# Altium footprint library Intelligent-Lighting-MasterPCBlib.PcbLib: 50 footprints (part 2 of 4)
Each footprint in its own frame and in the unit in brackets; x right, y up, seen from the top. Pads: shape width x height; smd on the part's side, far side on the other; paste and mask are expansions set on the pad; w line width, h text height; cw(c..) or ccw(c..) is an arc to the next point about the centre after c.
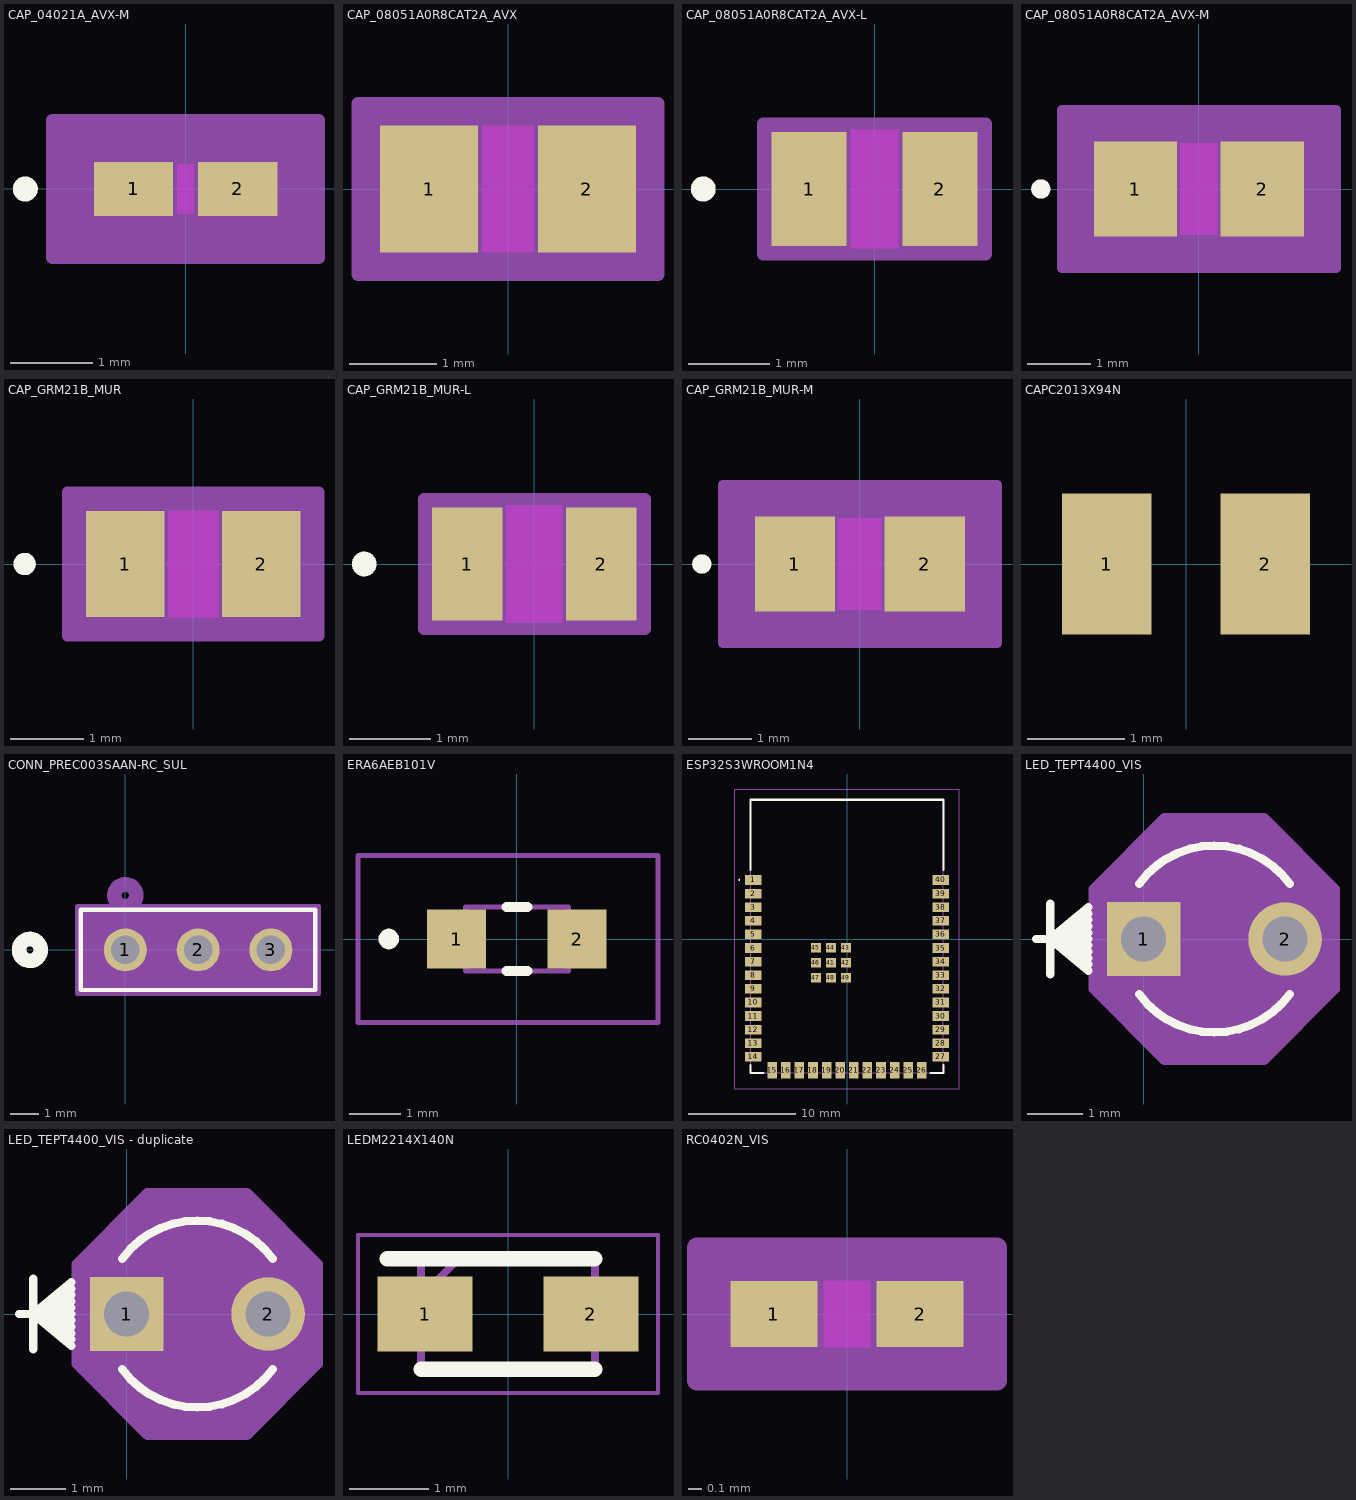
[diagram p1: the footprints below, top view; thin cyan lines are the x and y axes]

## CAP_04021A_AVX-M [mil]
pads (2):
  rect 38x26 smd paste+0 mask+0: 1(-25,0) 2(25,0)
Top Layer keep-out:
  region: -4,-10 -4,10 4,10 4,-10
Top Overlay:
  circle w6: c-77,0 r3
Keep-Out Layer:
  region: -4,-12 -4,12 4,12 4,-12
Mechanical 13:
  circle w0: c-20,0 r3
  lines w1: -22,-12 -22,12 ; -22,-12 -6,-12 -6,12 -22,12 ; -22,-12 22,-12 ; -22,-12 -22,12 ; -22,12 22,12 ; 22,-12 6,-12 6,12 22,12 ; 22,-12 22,12 ; 22,-12 22,12
Mechanical 15:
  region: 64,-33 -64,-33 -64,33 64,33
  lines w6: -64,-33 -64,33 64,33 64,-33 -64,-33
3D body "CAP_04021A_AVX.step": height 22.01, standoff 0, extent -22.01,-12.01 22.01,12.01

## CAP_08051A0R8CAT2A_AVX [mil]
pads (2):
  rect 44x57 smd paste+0 mask+0: 1(-35.5,0) 2(35.5,0)
Top Layer keep-out:
  region: -11.5,-26.5 -11.5,26.5 11.5,26.5 11.5,-26.5
Keep-Out Layer:
  region: -11.5,-28.5 -11.5,28.5 11.5,28.5 11.5,-28.5
Mechanical 13:
  lines w1: -43.5,-28.5 -43.5,28.5 ; -43.5,-28.5 -13.5,-28.5 -13.5,28.5 -43.5,28.5 ; -43.5,-28.5 43.5,-28.5 ; -43.5,-28.5 -43.5,28.5 ; -43.5,28.5 43.5,28.5 ; 43.5,-28.5 13.5,-28.5 13.5,28.5 43.5,28.5 ; 43.5,-28.5 43.5,28.5 ; 43.5,-28.5 43.5,28.5
Mechanical 15:
  region: 67.5,-38.5 -67.5,-38.5 -67.5,38.5 67.5,38.5
  lines w6: -67.5,-38.5 -67.5,38.5 67.5,38.5 67.5,-38.5 -67.5,-38.5
3D body "CAP_08051A0R8CAT2A_AVX.step": height 37.01, standoff 0, extent -43.5,-28.5 43.5,28.5

## CAP_08051A0R8CAT2A_AVX-L [mil]
pads (2):
  rect 36x55 smd paste+0 mask+0: 1(-31.5,0) 2(31.5,0)
Top Layer keep-out:
  region: -11.5,-26.5 -11.5,26.5 11.5,26.5 11.5,-26.5
Top Overlay:
  circle w6: c-82.5,0 r3
Keep-Out Layer:
  region: -11.5,-28.5 -11.5,28.5 11.5,28.5 11.5,-28.5
Mechanical 13:
  circle w0: c-26.5,0 r3
  lines w1: -43.5,-28.5 -43.5,28.5 ; -43.5,-28.5 43.5,-28.5 ; -43.5,-28.5 -13.5,-28.5 -13.5,28.5 -43.5,28.5 ; -43.5,-28.5 -43.5,28.5 ; -43.5,28.5 43.5,28.5 ; 43.5,-28.5 43.5,28.5 ; 43.5,-28.5 43.5,28.5 ; 43.5,-28.5 13.5,-28.5 13.5,28.5 43.5,28.5
Mechanical 15:
  region: 53.5,-31.5 -53.5,-31.5 -53.5,31.5 53.5,31.5
  lines w6: -53.5,-31.5 53.5,-31.5 53.5,31.5 -53.5,31.5 -53.5,-31.5
3D body "CAP_08051A0R8CAT2A_AVX.step": height 37.01, standoff 0, extent -43.5,-28.5 43.5,28.5

## CAP_08051A0R8CAT2A_AVX-M [mil]
pads (2):
  rect 52x59 smd paste+0 mask+0: 1(-39.5,0) 2(39.5,0)
Top Layer keep-out:
  region: -11.5,-26.5 -11.5,26.5 11.5,26.5 11.5,-26.5
Top Overlay:
  circle w6: c-98.5,0 r3
Keep-Out Layer:
  region: -11.5,-28.5 -11.5,28.5 11.5,28.5 11.5,-28.5
Mechanical 13:
  circle w0: c-34.5,0 r3
  lines w1: -43.5,-28.5 -43.5,28.5 ; -43.5,-28.5 -13.5,-28.5 -13.5,28.5 -43.5,28.5 ; -43.5,-28.5 43.5,-28.5 ; -43.5,-28.5 -43.5,28.5 ; -43.5,28.5 43.5,28.5 ; 43.5,-28.5 13.5,-28.5 13.5,28.5 43.5,28.5 ; 43.5,-28.5 43.5,28.5 ; 43.5,-28.5 43.5,28.5
Mechanical 15:
  region: 85.5,-49.5 -85.5,-49.5 -85.5,49.5 85.5,49.5
  lines w6: -85.5,-49.5 -85.5,49.5 85.5,49.5 85.5,-49.5 -85.5,-49.5
3D body "CAP_08051A0R8CAT2A_AVX.step": height 37.01, standoff 0, extent -43.5,-28.5 43.5,28.5

## CAP_GRM21B_MUR [mil]
pads (2):
  rect 42x57 smd paste+0 mask+0: 1(-36.5,0) 2(36.5,0)
Top Layer keep-out:
  region: -13.5,-26.5 -13.5,26.5 13.5,26.5 13.5,-26.5
Top Overlay:
  circle w6: c-90.5,0 r3
Keep-Out Layer:
  region: -13.5,-28.5 -13.5,28.5 13.5,28.5 13.5,-28.5
Mechanical 13:
  circle w0: c-31.5,0 r3
  lines w1: -43.5,-28.5 -43.5,28.5 ; -43.5,-28.5 43.5,-28.5 ; -43.5,-28.5 -15.5,-28.5 -15.5,28.5 -43.5,28.5 ; -43.5,-28.5 -43.5,28.5 ; -43.5,28.5 43.5,28.5 ; 43.5,-28.5 43.5,28.5 ; 43.5,-28.5 43.5,28.5 ; 43.5,-28.5 15.5,-28.5 15.5,28.5 43.5,28.5
Mechanical 15:
  region: 67.5,-38.5 -67.5,-38.5 -67.5,38.5 67.5,38.5
  lines w6: -67.5,-38.5 67.5,-38.5 67.5,38.5 -67.5,38.5 -67.5,-38.5
3D body "CAP_GRM21B_MUR.step": height 57.01, standoff 0, extent -43.5,-28.5 43.5,28.5

## CAP_GRM21B_MUR-L [mil]
pads (2):
  rect 34x55 smd paste+0 mask+0: 1(-32.5,0) 2(32.5,0)
Top Layer keep-out:
  region: -13.5,-26.5 -13.5,26.5 13.5,26.5 13.5,-26.5
Top Overlay:
  circle w6: c-82.5,0 r3
Keep-Out Layer:
  region: -13.5,-28.5 -13.5,28.5 13.5,28.5 13.5,-28.5
Mechanical 13:
  circle w0: c-27.5,0 r3
  lines w1: -43.5,-28.5 -43.5,28.5 ; -43.5,-28.5 43.5,-28.5 ; -43.5,-28.5 -15.5,-28.5 -15.5,28.5 -43.5,28.5 ; -43.5,-28.5 -43.5,28.5 ; -43.5,28.5 43.5,28.5 ; 43.5,-28.5 43.5,28.5 ; 43.5,-28.5 43.5,28.5 ; 43.5,-28.5 15.5,-28.5 15.5,28.5 43.5,28.5
Mechanical 15:
  region: 53.5,-31.5 -53.5,-31.5 -53.5,31.5 53.5,31.5
  lines w6: -53.5,-31.5 53.5,-31.5 53.5,31.5 -53.5,31.5 -53.5,-31.5
3D body "CAP_GRM21B_MUR.step": height 57.01, standoff 0, extent -43.5,-28.5 43.5,28.5

## CAP_GRM21B_MUR-M [mil]
pads (2):
  rect 50x59 smd paste+0 mask+0: 1(-40.5,0) 2(40.5,0)
Top Layer keep-out:
  region: -13.5,-26.5 -13.5,26.5 13.5,26.5 13.5,-26.5
Top Overlay:
  circle w6: c-98.5,0 r3
Keep-Out Layer:
  region: -13.5,-28.5 -13.5,28.5 13.5,28.5 13.5,-28.5
Mechanical 13:
  circle w0: c-35.5,0 r3
  lines w1: -43.5,-28.5 -43.5,28.5 ; -43.5,-28.5 43.5,-28.5 ; -43.5,-28.5 -15.5,-28.5 -15.5,28.5 -43.5,28.5 ; -43.5,-28.5 -43.5,28.5 ; -43.5,28.5 43.5,28.5 ; 43.5,-28.5 43.5,28.5 ; 43.5,-28.5 43.5,28.5 ; 43.5,-28.5 15.5,-28.5 15.5,28.5 43.5,28.5
Mechanical 15:
  region: 85.5,-49.5 -85.5,-49.5 -85.5,49.5 85.5,49.5
  lines w6: -85.5,-49.5 85.5,-49.5 85.5,49.5 -85.5,49.5 -85.5,-49.5
3D body "CAP_GRM21B_MUR.step": height 57.01, standoff 0, extent -43.5,-28.5 43.5,28.5

## CAPC2013X94N [mil]
pads (2):
  rect 36x57 smd: 1(-32,0) 2(32,0)
3D body "08055C104JAT2A.stp": height 37.01, standoff 0, extent -39.57,-24.61 39.57,24.61

## CONN_PREC003SAAN-RC_SUL [mil]
pads (3):
  round 59 / inner round 60 / far side round 59 hole 39 paste-99999 mask+0: 1(0,0) 2(100,0) 3(200,0)
Top Overlay:
  circle w20: c-131,0 r15
  lines w6: -61,-55 261,-55 261,55 -61,55 -61,-55
Bottom Overlay:
  circle w20: c-131,0 r15
Mechanical 13:
  circle w20: c0,75 r15
  lines w1: -56,-50 256,-50 256,50 -56,50 -56,-50
Mechanical 15:
  region: 266,60 -66,60 -66,-60 266,-60
  lines w6: -66,-60 -66,60 266,60 266,-60 -66,-60

## ERA6AEB101V [mm]
pads (2):
  rect 1.15x1.15 smd: 1(-1.175,0) 2(1.175,0)
Top Overlay:
  lines w0.2: -0.2,-0.625 0.2,-0.625 ; -0.2,0.625 0.2,0.625 ; -2.5,-0.1 cw(c-2.5,0) -2.5,0.1 cw(c-2.5,0) -2.5,-0.1
Mechanical 13:
  lines w0.1: -1,-0.625 1,-0.625 1,0.625 -1,0.625 -1,-0.625
Mechanical 15:
  lines w0.1: -3.1,-1.625 2.75,-1.625 2.75,1.625 -3.1,1.625 -3.1,-1.625
3D body "ERA-6ARB102V.stp": height 0.5, standoff 0, extent -1,-0.625 1,0.625

## ESP32S3WROOM1N4 [mm]
pads (49):
  rect 1.5x0.9 smd: 1(-8.75,5.51) 2(-8.75,4.24) 3(-8.75,2.97) 4(-8.75,1.7) 5(-8.75,0.43) 6(-8.75,-0.84) 7(-8.75,-2.11) 8(-8.75,-3.38) 9(-8.75,-4.65) 10(-8.75,-5.92) 11(-8.75,-7.19) 12(-8.75,-8.46) 13(-8.75,-9.73) 14(-8.75,-11) 27(8.75,-11) 28(8.75,-9.73) 29(8.75,-8.46) 30(8.75,-7.19) 31(8.75,-5.92) 32(8.75,-4.65) 33(8.75,-3.38) 34(8.75,-2.11) 35(8.75,-0.84) 36(8.75,0.43) 37(8.75,1.7) 38(8.75,2.97) 39(8.75,4.24) 40(8.75,5.51)
  rect 0.9x1.5 smd: 15(-6.985,-12.25) 16(-5.715,-12.25) 17(-4.445,-12.25) 18(-3.175,-12.25) 19(-1.905,-12.25) 20(-0.635,-12.25) 21(0.635,-12.25) 22(1.905,-12.25) 23(3.175,-12.25) 24(4.445,-12.25) 25(5.715,-12.25) 26(6.985,-12.25)
  rect 0.9x0.9 smd: 41(-1.5,-2.21) 42(-0.1,-2.21) 43(-0.1,-0.81) 44(-1.5,-0.81) 45(-2.9,-0.81) 46(-2.9,-2.21) 47(-2.9,-3.61) 48(-1.5,-3.61) 49(-0.1,-3.61)
Top Overlay:
  lines w0.1: -10.1,5.51 ccw(c-10.05,5.51) -10,5.51 ccw(c-10.05,5.51) -10.1,5.51
  lines w0.2: -9,-11.75 -9,-12.5 -7.8,-12.5 ; -9,6.45 -9,13 9,13 9,6.45 ; 7.8,-12.5 9,-12.5 9,-11.75
Mechanical 13:
  lines w0.1: -9,-12.5 -9,13 9,13 9,-12.5 -9,-12.5
Mechanical 15:
  lines w0.1: -10.5,-14 -10.5,14 10.5,14 10.5,-14 -10.5,-14
3D body "ESP32-S3-WROOM-1-N4.stp": height 3.25, standoff 0, extent -9,-13 9,12.5

## LED_TEPT4400_VIS [mil]
pads (2):
  rect 52x52 / inner round 60 / far side rect 52x52 hole 32 paste-99999 mask+0: 1(0,0)
  round 52 / inner round 60 / far side round 52 hole 32 paste-99999 mask+0: 2(100,0)
Top Overlay:
  lines w6: -76,0 -39.1,0 ; -66,-25 -66,25 ; -39.1,-22.42 -66,0 ; -39.1,-17.93 -66,0 ; -39.1,-13.45 -66,0 ; -39.1,-8.97 -66,0 ; -39.1,-4.48 -66,0 ; -39.1,4.48 -66,0 ; -39.1,8.97 -66,0 ; -39.1,13.45 -66,0 ; -39.1,17.93 -66,0 ; -39.1,22.42 -66,0 ; -3.17,-39.1 ccw(c50,0) 103.27,-38.96 ; -3.17,39.1 cw(c50,0) 103.27,38.96
Mechanical 13:
  circle w0: c50,0 r61
  lines w1: -76,0 -26,0 ; -66,-25 -66,25 ; -36,-20 -66,0 ; -36,-15 -66,0 ; -36,-10 -66,0 ; -36,-5 -66,0 ; -36,5 -66,0 ; -36,10 -66,0 ; -36,15 -66,0 ; -36,20 -66,0 ; -66,0 -36,-25 -36,25 -66,0
Mechanical 15:
  region: -36,35.41 14.59,86 85.41,86 136,35.41 136,-35.41 85.41,-86 14.59,-86 -36,-35.41
  lines w6: -36,-35.41 -36,35.41 14.59,86 85.41,86 136,35.41 136,-35.41 85.41,-86 14.59,-86 -36,-35.41
3D body "LED_TEPT4400_VIS.step": height 177.6, standoff -210, extent -11.48,-60.56 111,60.56

## LED_TEPT4400_VIS - duplicate [mil]
pads (2):
  rect 52x52 / inner round 60 / far side rect 52x52 hole 32 paste-99999 mask+0: 1(0,0)
  round 52 / inner round 60 / far side round 52 hole 32 paste-99999 mask+0: 2(100,0)
Top Overlay:
  lines w6: -76,0 -39.1,0 ; -66,-25 -66,25 ; -39.1,-22.42 -66,0 ; -39.1,-17.93 -66,0 ; -39.1,-13.45 -66,0 ; -39.1,-8.97 -66,0 ; -39.1,-4.48 -66,0 ; -39.1,4.48 -66,0 ; -39.1,8.97 -66,0 ; -39.1,13.45 -66,0 ; -39.1,17.93 -66,0 ; -39.1,22.42 -66,0 ; -3.17,-39.1 ccw(c50,0) 103.27,-38.96 ; -3.17,39.1 cw(c50,0) 103.27,38.96
Mechanical 13:
  circle w0: c50,0 r61
  lines w1: -76,0 -26,0 ; -66,-25 -66,25 ; -36,-20 -66,0 ; -36,-15 -66,0 ; -36,-10 -66,0 ; -36,-5 -66,0 ; -36,5 -66,0 ; -36,10 -66,0 ; -36,15 -66,0 ; -36,20 -66,0 ; -66,0 -36,-25 -36,25 -66,0
Mechanical 15:
  region: -36,35.41 14.59,86 85.41,86 136,35.41 136,-35.41 85.41,-86 14.59,-86 -36,-35.41
  lines w6: -36,-35.41 -36,35.41 14.59,86 85.41,86 136,35.41 136,-35.41 85.41,-86 14.59,-86 -36,-35.41
3D body "LED_TEPT4400_VIS.step": height 177.6, standoff -210, extent -11.48,-60.56 111,60.56

## LEDM2214X140N [mm]
pads (2):
  rect 1.2x0.95 smd: 1(-1.05,0) 2(1.05,0)
Top Overlay:
  lines w0.2: -1.525,0.7 1.1,0.7 ; -1.1,-0.7 1.1,-0.7
Mechanical 13:
  lines w0.1: -1.1,0.225 -0.625,0.7 ; -1.1,-0.7 1.1,-0.7 1.1,0.7 -1.1,0.7 -1.1,-0.7
Mechanical 15:
  lines w0.05: -1.9,-1 1.9,-1 1.9,1 -1.9,1 -1.9,-1

## PCBComponent_1 [mm]

## RC0402N_VIS [mm]
pads (2):
  rect 0.656x0.5 smd paste+0 mask+0: 1(-0.553,0) 2(0.553,0)
Top Layer keep-out:
  region: -0.174,-0.199 -0.174,0.199 0.174,0.199 0.174,-0.199
Keep-Out Layer:
  region: -0.174,-0.25 -0.174,0.25 0.174,0.25 0.174,-0.25
Mechanical 13:
  lines w0.025: -0.525,-0.25 -0.525,0.25 ; -0.525,-0.25 -0.225,-0.25 -0.225,0.25 -0.525,0.25 ; -0.525,-0.25 0.525,-0.25 ; -0.525,-0.25 -0.525,0.25 ; -0.525,0.25 0.525,0.25 ; 0.525,-0.25 0.225,-0.25 0.225,0.25 0.525,0.25 ; 0.525,-0.25 0.525,0.25 ; 0.525,-0.25 0.525,0.25
Mechanical 15:
  region: 1.135,-0.504 -1.135,-0.504 -1.135,0.504 1.135,0.504
  lines w0.152: -1.135,-0.504 -1.135,0.504 1.135,0.504 1.135,-0.504 -1.135,-0.504
3D body "RC0402N_VIS.step": height 0.71, standoff 0, extent -0.525,-0.25 0.525,0.25